# Altium footprint library SMIOT_Lib_FootPrint.PcbLib: 34 footprints (part 3 of 3)
Each footprint in its own frame and in the unit in brackets; x right, y up, seen from the top. Pads: shape width x height; smd on the part's side, far side on the other; paste and mask are expansions set on the pad; w line width, h text height; cw(c..) or ccw(c..) is an arc to the next point about the centre after c.
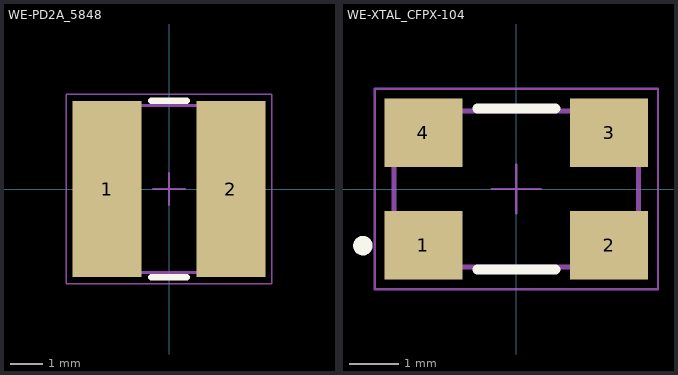
[diagram p2: the footprints below, top view; thin cyan lines are the x and y axes]

## WE-PD2A_5848 [mm] "SMD Power Inductor, body 5.8x5.2mm"
height 4.5
pads (2):
  rect 2.15x5.5 smd: 1(-1.925,0) 2(1.925,0)
Top Overlay:
  lines w0.2: -0.55,-2.75 0.55,-2.75 ; -0.55,2.75 0.55,2.75
Mechanical 13:
  lines w0.1: -2.9,-2.6 -2.9,2.6 2.9,2.6 2.9,-2.6 -2.9,-2.6
Mechanical 15:
  lines w0.05: -0.5,0 0.5,0 ; 0,-0.5 0,0.5 ; -3.2,-2.95 3.2,-2.95 3.2,2.95 -3.2,2.95 -3.2,-2.95
3D body "STEP-WE-PD2A-5848-rev1.stp": height 4.5, standoff 0, extent -2.899,-2.6 2.889,2.6

## WE-XTAL_CFPX-104 [mm]
pads (4):
  rect 1.6x1.4 smd: 1(-1.9,-1.15) 2(1.9,-1.15) 3(1.9,1.15) 4(-1.9,1.15)
Top Overlay:
  circle w0.2: c-3.14,-1.16 r0.1
  lines w0.2: -0.8,-1.65 0.8,-1.65 ; -0.8,1.65 0.8,1.65
Top Component Outline:
  circle w0.1: c-1.9,-1 r0.3
  lines w0.1: -2.5,-1.6 -2.5,1.6 2.5,1.6 2.5,-1.6 -2.5,-1.6
  text ".Designator" at -2,-0.6 h1.2
Mechanical 13:
  lines w0.1: -2.5,-1.6 2.5,-1.6 2.5,1.6 -2.5,1.6 -2.5,-1.6
Mechanical 15:
  lines w0.05: -0.5,0 0.5,0 ; 0,-0.5 0,0.5 ; -2.9,-2.05 2.9,-2.05 2.9,2.05 -2.9,2.05 -2.9,-2.05
3D body "FrqXTAL_CFPX-104.stp": height 0.95, standoff 0, extent -2.5,-1.6 2.5,1.6